# Altium footprint library TIL6B.PcbLib: 1 footprints
Each footprint in its own frame and in the unit in brackets; x right, y up, seen from the top. Pads: shape width x height; smd on the part's side, far side on the other; paste and mask are expansions set on the pad; w line width, h text height; cw(c..) or ccw(c..) is an arc to the next point about the centre after c.
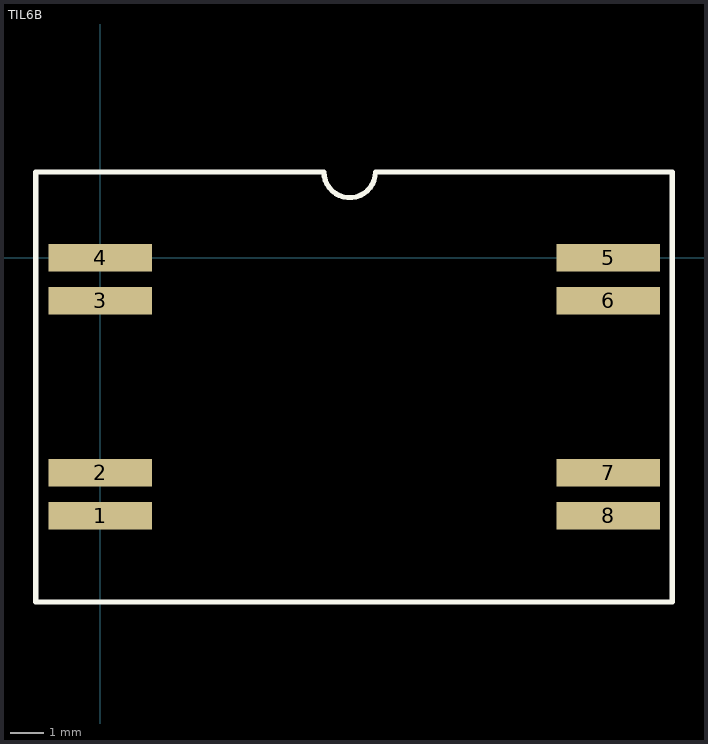
[diagram p0: the footprint, top view; thin cyan lines are the x and y axes]

## TIL6B [mil]
pads (8):
  rect 120x32 smd: 1(0,-300) 2(0,-250) 3(0,-50) 4(0,0) 5(590.55,0) 6(590.55,-50) 7(590.55,-250) 8(590.55,-300)
TopOverlay:
  lines w6: -75,-400 665,-400 665,100 320,100 cw(c290,100) 260,100 -75,100 -75,-400